# Altium schematic symbol library Monolithic Power Systems.SchLib: 1 symbol
Pins are listed as number, name and electrical type; pins without a type are passive.

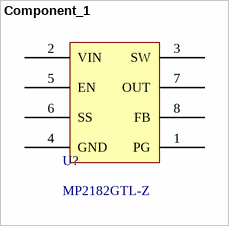
[diagram p0: symbol Component_1]

## Component_1
designator U?, comment MP2182GTL-Z
pins: 1 PG, 2 VIN, 3 SW, 4 GND, 5 EN, 6 SS, 7 OUT, 8 FB